# Altium schematic symbol library REF.SchLib: 1 symbol
Pins are listed as number, name and electrical type; pins without a type are passive.

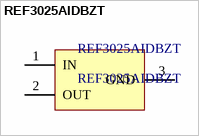
[diagram p0: symbol REF3025AIDBZT]

## REF3025AIDBZT
designator REF3025AIDBZT
footprint SOT23-3 (1.12H)
pins: 1 IN, 2 OUT, 3 GND